# Altium integrated library Analog Devices Data Converters Analog-to-Digital Converters.IntLib: 2404 symbols (part 181 of 346)
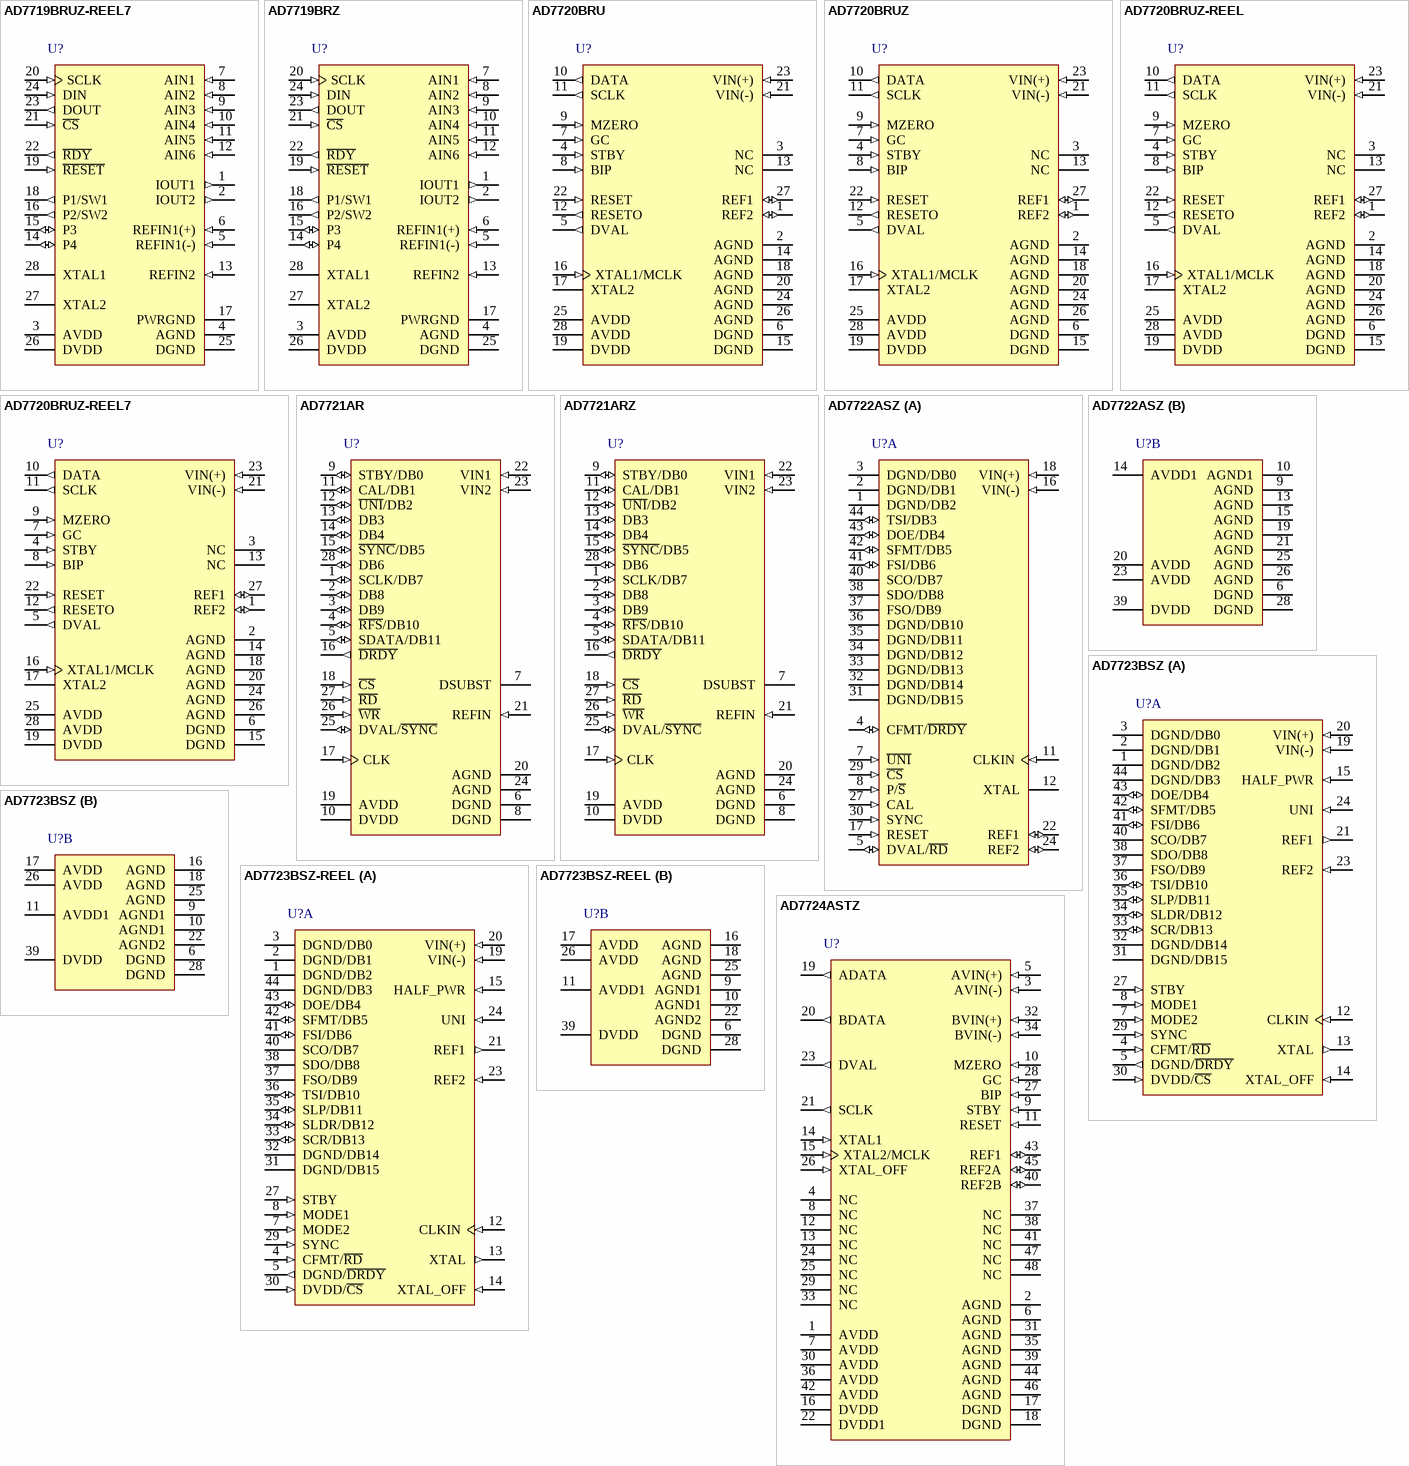
[diagram p253: symbols AD7719BRUZ-REEL7 to AD7724ASTZ]

## AD7719BRUZ-REEL7
designator U?
6 Channel 24-Bit Low Power Sigma-Delta Analog-to-Digital Converter with Serial, SPI Interface, Factory-Calibrated, 105SPS, -40 to +85 degC, RU-28, Pb-Free, Reel; Generic Part Number: AD7719; Manufacturer: Analog Devices; PartNumber: AD7719BRUZ-REEL7; Resolution (Bits): 24; Channels: 6; Throughput Rate (SPS): 105; Interface: Ser, SPI; DatasheetVersion: Rev.A; PackageVersion: 2005; PackageReference: RU-28; PackageDescription: 28-Lead Thin Shrink Small Outline Package [TSSOP]; Supplier 1: Digi-Key; Supplier Part Number 1: AD7719BRUZ-REEL7-ND; Supplier 2: Mouser; Supplier Part Number 2: 584-AD7719BRUZ-R7; RoHS: Y; Packing: Reel; Mounting Technology: Surface Mount; Code_JEDEC: MO-153-AE; ComponentLink1Description: Manufacturer URL; ComponentLink1URL: http://www.analog.com/en/index.html; ComponentLink2Description: Datasheet; ComponentLink2URL: http://www.analog.com/static/imported-files/data_sheets/AD7719.pdf; ComponentLink3Description: Package Specification; ComponentLink3URL: http://www.analog.com/static/imported-files/packages/249854663RU_28.pdf; ComponentLink4Description: Product URL; ComponentLink4URL: http://www.analog.com/en/analog-to-digital-converters/ad-converters/ad7719/products/product.html
footprint RU-28_N (TSOP, 28-Leads, Body 9.7x4.4mm, Pitch 0.65mm, IPC Medium Density)
footprint RU-28_L (TSOP, 28-Leads, Body 9.7x4.4mm, Pitch 0.65mm, IPC High Density)
footprint RU-28_M (TSOP, 28-Leads, Body 9.7x4.4mm, Pitch 0.65mm, IPC Low Density)
pins: 1 IOUT1 (out) "Output for Internal 200 uA Excitation Current Source. Current source IEXC1 and/or IEXC2 can be switched to this output.", 2 IOUT2 (out) "Output for Internal 200 uA Excitation Current Source. Current source IEXC1 and/or IEXC2 can be switched to this output.", 3 AVDD (power) "Analog Supply Voltage.", 4 AGND (power) "Analog Ground.", 5 REFIN1(-) (in) "Negative Reference Input for Main ADC Channel. This reference input can lie anywhere between AGND and AVDD - 1 V.", 6 REFIN1(+) (in) "Positive Reference Input for Main ADC Channel. REFIN1(+) can lie anywhere between AVDD and AGND + 1 V. The nominal reference voltage (REFIN1(+) - REFIN1(-)) is 2.5 V, but the part is functional with a reference range from 1 (See Datasheet)", 7 AIN1 (in) "Analog Input. AIN1 is dedicated to the main channel.", 8 AIN2 (in) "Analog Input. AIN2 is dedicated to the main channel.", 9 AIN3 (in) "Analog Input. AIN3 can be multiplexed to either the main or auxiliary channel.", 10 AIN4 (in) "Analog Input. AIN4 can be multiplexed to either the main or auxiliary channel.", 11 AIN5 (in) "Analog Input. AIN5 is dedicated to the auxiliary channel and is referenced to AIN6 or AGND.", 12 AIN6 (in) "Analog Input. AIN6 is dedicated to the auxiliary channel. It forms a differential input pair with AIN5 in fully differential input mode or is referenced to AGND in pseudodifferential mode.", 13 REFIN2 (in) "Single-Ended Reference Input for Auxiliary Channel. The nominal input reference is 2.5 V. The auxiliary channel will function with an input reference range from 1 V to AVDD.", 14 P4 (io) "General-Purpose I/O Bit. The input and output voltage levels are referenced to AVDD and AGND.", 15 P3 (io) "General-Purpose I/O Bit. The input and output voltage levels are referenced to AVDD and AGND.", 16 P2/SW2 (out) "Dual-Purpose Pin. It can act as a general-purpose output (P2) bit referenced between AVDD and AGND or as a low-side power switch (SW2) to PWRGND.", 17 PWRGND (power) "Ground Point for the Low-Side Power Switches SW2 and SW1. PWRGND must be tied to AGND.", 18 P1/SW1 (out) "Dual-Purpose Pin. It can act as a general-purpose output (P1) bit referenced between AVDD and AGND or as a low-side power switch (SW1) to PWRGND.", 19 ~{RESET} (in) "Digital Input Used to Reset the ADC to Its Power-On Reset Status. This pin has a weak pull-up internally to DVDD.", 20 SCLK (in) "Serial Clock Input for Data Transfers to and from the ADC. The SCLK has a Schmitt-triggered input, making the interface suitable for opto-isolated applications. The serial clock can be continuous with all data transmitted in (See Datasheet)", 21 ~{CS} (in) "Chip Select Input. This is an active low logic input used to select the AD7719. C\S\ can be used to select the AD7719 in systems with more than one device on the serial bus or as a frame synchronization signal in (See Datasheet)", 22 ~{RDY} (out) "R\D\Y\ is a logic low status output from the AD7719. R\D\Y\ is low if either the main ADC or auxiliary ADC channel has valid data in its data register. This output returns high on completion of a read operation from the data (See Datasheet)", 23 DOUT (out) "Serial Data Output Accessing the Output Shift Register of the AD7719. The output shift register can contain data from any of the on-chip data, calibration, or control registers.", 24 DIN (in) "Serial Data Input Accessing the Input Shift Register on the AD7719. Data in this shift register is transferred to the calibration or control registers within the ADC depending on the selection bits of the Communications (See Datasheet)", 25 DGND (power) "Ground Reference Point for the Digital Circuitry.", 26 DVDD (power) "Digital Supply Voltage, 3 V or 5 V Nominal.", 27 XTAL2 "Output from the 32 kHz Crystal Oscillator Inverter.", 28 XTAL1 "Input to the 32 kHz Crystal Oscillator Inverter."

## AD7719BRZ
designator U?
6 Channel 24-Bit Low Power Sigma-Delta Analog-to-Digital Converter with Serial, SPI Interface, Factory-Calibrated, 105SPS, -40 to +85 degC, RW-28, Pb-Free, Tube; Generic Part Number: AD7719; Manufacturer: Analog Devices; PartNumber: AD7719BRZ; Resolution (Bits): 24; Channels: 6; Throughput Rate (SPS): 105; Interface: Ser, SPI; DatasheetVersion: Rev.A; PackageVersion: 060706-A; PackageReference: RW-28; PackageDescription: 28-Lead Standard Small Outline Package [SOIC_W]; Supplier 1: Digi-Key; Supplier Part Number 1: AD7719BRZ-ND; Supplier 2: Farnell; Supplier Part Number 2: 1438860; Supplier 3: Newark; Supplier Part Number 3: 15P0858; Supplier 4: Newark; Supplier Part Number 4: 59K5359; Supplier 5: Mouser; Supplier Part Number 5: 584-AD7719BRZ; RoHS: Y; Packing: Tube; Mounting Technology: Surface Mount; Code_JEDEC: MS-013-AE; ComponentLink1Description: Manufacturer URL; ComponentLink1URL: http://www.analog.com/en/index.html; ComponentLink2Description: Datasheet; ComponentLink2URL: http://www.analog.com/static/imported-files/data_sheets/AD7719.pdf; ComponentLink3Description: Package Specification; ComponentLink3URL: http://www.analog.com/static/imported-files/packages/35833120341221RW_28.pdf; ComponentLink4Description: Product URL; ComponentLink4URL: http://www.analog.com/en/analog-to-digital-converters/ad-converters/ad7719/products/product.html
footprint RW-28_N (SOIC, 28-Leads, Body 17.9x7.5mm, Pitch 1.27mm, IPC Medium Density)
footprint RW-28_L (SOIC, 28-Leads, Body 17.9x7.5mm, Pitch 1.27mm, IPC High Density)
footprint RW-28_M (SOIC, 28-Leads, Body 17.9x7.5mm, Pitch 1.27mm, IPC Low Density)
pins: 1 IOUT1 (out) "Output for Internal 200 uA Excitation Current Source. Current source IEXC1 and/or IEXC2 can be switched to this output.", 2 IOUT2 (out) "Output for Internal 200 uA Excitation Current Source. Current source IEXC1 and/or IEXC2 can be switched to this output.", 3 AVDD (power) "Analog Supply Voltage.", 4 AGND (power) "Analog Ground.", 5 REFIN1(-) (in) "Negative Reference Input for Main ADC Channel. This reference input can lie anywhere between AGND and AVDD - 1 V.", 6 REFIN1(+) (in) "Positive Reference Input for Main ADC Channel. REFIN1(+) can lie anywhere between AVDD and AGND + 1 V. The nominal reference voltage (REFIN1(+) - REFIN1(-)) is 2.5 V, but the part is functional with a reference range from 1 (See Datasheet)", 7 AIN1 (in) "Analog Input. AIN1 is dedicated to the main channel.", 8 AIN2 (in) "Analog Input. AIN2 is dedicated to the main channel.", 9 AIN3 (in) "Analog Input. AIN3 can be multiplexed to either the main or auxiliary channel.", 10 AIN4 (in) "Analog Input. AIN4 can be multiplexed to either the main or auxiliary channel.", 11 AIN5 (in) "Analog Input. AIN5 is dedicated to the auxiliary channel and is referenced to AIN6 or AGND.", 12 AIN6 (in) "Analog Input. AIN6 is dedicated to the auxiliary channel. It forms a differential input pair with AIN5 in fully differential input mode or is referenced to AGND in pseudodifferential mode.", 13 REFIN2 (in) "Single-Ended Reference Input for Auxiliary Channel. The nominal input reference is 2.5 V. The auxiliary channel will function with an input reference range from 1 V to AVDD.", 14 P4 (io) "General-Purpose I/O Bit. The input and output voltage levels are referenced to AVDD and AGND.", 15 P3 (io) "General-Purpose I/O Bit. The input and output voltage levels are referenced to AVDD and AGND.", 16 P2/SW2 (out) "Dual-Purpose Pin. It can act as a general-purpose output (P2) bit referenced between AVDD and AGND or as a low-side power switch (SW2) to PWRGND.", 17 PWRGND (power) "Ground Point for the Low-Side Power Switches SW2 and SW1. PWRGND must be tied to AGND.", 18 P1/SW1 (out) "Dual-Purpose Pin. It can act as a general-purpose output (P1) bit referenced between AVDD and AGND or as a low-side power switch (SW1) to PWRGND.", 19 ~{RESET} (in) "Digital Input Used to Reset the ADC to Its Power-On Reset Status. This pin has a weak pull-up internally to DVDD.", 20 SCLK (in) "Serial Clock Input for Data Transfers to and from the ADC. The SCLK has a Schmitt-triggered input, making the interface suitable for opto-isolated applications. The serial clock can be continuous with all data transmitted in (See Datasheet)", 21 ~{CS} (in) "Chip Select Input. This is an active low logic input used to select the AD7719. C\S\ can be used to select the AD7719 in systems with more than one device on the serial bus or as a frame synchronization signal in (See Datasheet)", 22 ~{RDY} (out) "R\D\Y\ is a logic low status output from the AD7719. R\D\Y\ is low if either the main ADC or auxiliary ADC channel has valid data in its data register. This output returns high on completion of a read operation from the data (See Datasheet)", 23 DOUT (out) "Serial Data Output Accessing the Output Shift Register of the AD7719. The output shift register can contain data from any of the on-chip data, calibration, or control registers.", 24 DIN (in) "Serial Data Input Accessing the Input Shift Register on the AD7719. Data in this shift register is transferred to the calibration or control registers within the ADC depending on the selection bits of the Communications (See Datasheet)", 25 DGND (power) "Ground Reference Point for the Digital Circuitry.", 26 DVDD (power) "Digital Supply Voltage, 3 V or 5 V Nominal.", 27 XTAL2 "Output from the 32 kHz Crystal Oscillator Inverter.", 28 XTAL1 "Input to the 32 kHz Crystal Oscillator Inverter."

## AD7720BRU
designator U?
Single 16-Bit Sigma-Delta Analog-to-Digital Converter with Serial Interface, 12.5MSPS, -40 to +85 degC, RU-28, Tube; Generic Part Number: AD7720; Manufacturer: Analog Devices; PartNumber: AD7720BRU; Resolution (Bits): 16; Channels: 1; Throughput Rate (SPS): 12.5M; Interface: Ser; DatasheetVersion: Rev.0; PackageVersion: 2005; PackageReference: RU-28; PackageDescription: 28-Lead Thin Shrink Small Outline Package [TSSOP]; Supplier 1: Digi-Key; Supplier Part Number 1: AD7720BRU-ND; Supplier 2: Mouser; Supplier Part Number 2: 584-AD7720BRU; RoHS: N; Packing: Tube; Mounting Technology: Surface Mount; Code_JEDEC: MO-153-AE; ComponentLink1Description: Manufacturer URL; ComponentLink1URL: http://www.analog.com/en/index.html; ComponentLink2Description: Datasheet; ComponentLink2URL: http://www.analog.com/static/imported-files/data_sheets/AD7720.pdf; ComponentLink3Description: Package Specification; ComponentLink3URL: http://www.analog.com/static/imported-files/packages/249854663RU_28.pdf; ComponentLink4Description: Product URL; ComponentLink4URL: http://www.analog.com/en/analog-to-digital-converters/ad-converters/ad7720/products/product.html
footprint RU-28_N (TSOP, 28-Leads, Body 9.7x4.4mm, Pitch 0.65mm, IPC Medium Density)
footprint RU-28_L (TSOP, 28-Leads, Body 9.7x4.4mm, Pitch 0.65mm, IPC High Density)
footprint RU-28_M (TSOP, 28-Leads, Body 9.7x4.4mm, Pitch 0.65mm, IPC Low Density)
pins: 1 REF2 (io) "Reference Input/Output. REF2 connects to the output of an internal buffer amplifier used to drive the sigma-delta modulator. When REF2 is used as an input, REF1 must be connected to AGND.", 2 AGND (power) "Ground reference point for analog circuitry.", 3 NC "No Connect.", 4 STBY (in) "Standby, Logic Input. When STBY is high, the device is placed in a low power mode. When STBY is low, the device is powered up.", 5 DVAL (out) "Data Valid Logic Output. A logic high on DVAL indicates that the data bit stream from the AD7720 is an accurate digital representation of the analog voltage at the input to the sigma-delta modulator. The DVAL pin is set low (See Datasheet)", 6 DGND (power) "Ground reference for the digital circuitry.", 7 GC (in) "Digital Control Input. When GC is high, the gain error of the modulator can be calibrated.", 8 BIP (in) "Analog Input Range Select, Logic Input. A logic low on this input selects unipolar mode. A logic high selects bipolar mode.", 9 MZERO (in) "Digital Control Input. When MZERO is high, the modulator inputs are internally grounded, i.e., tied to AGND in unipolar mode and REF2 in bipolar mode. MZERO allows on-chip offsets to be calibrated out. MZERO is low for (See Datasheet)", 10 DATA (out) "Modulator Bit Stream. The digital bit stream from the sigma-delta modulator is output at DATA.", 11 SCLK (out) "Serial Clock, Logic Output. The bit stream from the modulator is valid on the rising edge of SCLK.", 12 RESETO (out) "Reset Logic Output. The signal applied to the RESET pin is made available as an output at RESETO.", 13 NC "No Connect.", 14 AGND (power) "Ground reference point for analog circuitry.", 15 DGND (power) "Ground reference for the digital circuitry.", 16 XTAL1/MCLK (in) "CMOS Logic Clock Input. The XTAL1/MCLK pin interfaces the device’s internal oscillator circuit to an external crystal or an external clock. A parallel resonant, fundamental-frequency, microprocessor-grade crystal and a 1 (See Datasheet)", 17 XTAL2 "Oscillator Output. The XTAL2 pin connects the internal oscillator output to an external crystal. If an external clock is used, XTAL2 should be left unconnected.", 18 AGND (power) "Ground reference point for analog circuitry.", 19 DVDD (power) "Digital Supply Voltage, +5 V +/- 5%.", 20 AGND (power) "Ground reference point for analog circuitry.", 21 VIN(-) (in) "Analog Input. In unipolar operation, the analog input range on VIN(+) is VIN(-) to (VIN(-) + VREF); for bipolar operation, the analog input range on VIN+ is (VIN(-) +/- VREF/2). The absolute analog input range must lie (See Datasheet)", 22 RESET (in) "Reset Logic Input. RESET is an asynchronous input. When RESET is taken high, the sigma-delta modulator is reset by shorting the integrator capacitors in the modulator. DVAL goes low for 20 MCLK cycles while the modulator is (See Datasheet)", 23 VIN(+) (in) "Analog Input. In unipolar operation, the analog input range on VIN(+) is VIN(-) to (VIN(-) + VREF); for bipolar operation, the analog input range on VIN+ is (VIN(-) +/- VREF/2). The absolute analog input range must lie (See Datasheet)", 24 AGND (power) "Ground reference point for analog circuitry.", 25 AVDD (power) "Analog Positive Supply Voltage, +5 V +/- 5%.", 26 AGND (power) "Ground reference point for analog circuitry.", 27 REF1 (io) "Reference Input/Output. REF1 connects via a 3 k ohm resistor to the output of the internal 2.5 V reference, and to the input of a buffer amplifier that drives the sigma-delta modulator. This pin can also be overdriven with (See Datasheet)", 28 AVDD (power) "Analog Positive Supply Voltage, +5 V +/- 5%."

## AD7720BRUZ
designator U?
Single 16-Bit Sigma-Delta Analog-to-Digital Converter with Serial Interface, 12.5MSPS, -40 to +85 degC, RU-28, Pb-Free, Tube; Generic Part Number: AD7720; Manufacturer: Analog Devices; PartNumber: AD7720BRUZ; Resolution (Bits): 16; Channels: 1; Throughput Rate (SPS): 12.5M; Interface: Ser; DatasheetVersion: Rev.0; PackageVersion: 2005; PackageReference: RU-28; PackageDescription: 28-Lead Thin Shrink Small Outline Package [TSSOP]; Supplier 1: Digi-Key; Supplier Part Number 1: AD7720BRUZ-ND; Supplier 2: Mouser; Supplier Part Number 2: 584-AD7720BRUZ; RoHS: Y; Packing: Tube; Mounting Technology: Surface Mount; Code_JEDEC: MO-153-AE; ComponentLink1Description: Manufacturer URL; ComponentLink1URL: http://www.analog.com/en/index.html; ComponentLink2Description: Datasheet; ComponentLink2URL: http://www.analog.com/static/imported-files/data_sheets/AD7720.pdf; ComponentLink3Description: Package Specification; ComponentLink3URL: http://www.analog.com/static/imported-files/packages/249854663RU_28.pdf; ComponentLink4Description: Product URL; ComponentLink4URL: http://www.analog.com/en/analog-to-digital-converters/ad-converters/ad7720/products/product.html
footprint RU-28_N (TSOP, 28-Leads, Body 9.7x4.4mm, Pitch 0.65mm, IPC Medium Density)
footprint RU-28_L (TSOP, 28-Leads, Body 9.7x4.4mm, Pitch 0.65mm, IPC High Density)
footprint RU-28_M (TSOP, 28-Leads, Body 9.7x4.4mm, Pitch 0.65mm, IPC Low Density)
pins: 1 REF2 (io) "Reference Input/Output. REF2 connects to the output of an internal buffer amplifier used to drive the sigma-delta modulator. When REF2 is used as an input, REF1 must be connected to AGND.", 2 AGND (power) "Ground reference point for analog circuitry.", 3 NC "No Connect.", 4 STBY (in) "Standby, Logic Input. When STBY is high, the device is placed in a low power mode. When STBY is low, the device is powered up.", 5 DVAL (out) "Data Valid Logic Output. A logic high on DVAL indicates that the data bit stream from the AD7720 is an accurate digital representation of the analog voltage at the input to the sigma-delta modulator. The DVAL pin is set low (See Datasheet)", 6 DGND (power) "Ground reference for the digital circuitry.", 7 GC (in) "Digital Control Input. When GC is high, the gain error of the modulator can be calibrated.", 8 BIP (in) "Analog Input Range Select, Logic Input. A logic low on this input selects unipolar mode. A logic high selects bipolar mode.", 9 MZERO (in) "Digital Control Input. When MZERO is high, the modulator inputs are internally grounded, i.e., tied to AGND in unipolar mode and REF2 in bipolar mode. MZERO allows on-chip offsets to be calibrated out. MZERO is low for (See Datasheet)", 10 DATA (out) "Modulator Bit Stream. The digital bit stream from the sigma-delta modulator is output at DATA.", 11 SCLK (out) "Serial Clock, Logic Output. The bit stream from the modulator is valid on the rising edge of SCLK.", 12 RESETO (out) "Reset Logic Output. The signal applied to the RESET pin is made available as an output at RESETO.", 13 NC "No Connect.", 14 AGND (power) "Ground reference point for analog circuitry.", 15 DGND (power) "Ground reference for the digital circuitry.", 16 XTAL1/MCLK (in) "CMOS Logic Clock Input. The XTAL1/MCLK pin interfaces the device’s internal oscillator circuit to an external crystal or an external clock. A parallel resonant, fundamental-frequency, microprocessor-grade crystal and a 1 (See Datasheet)", 17 XTAL2 "Oscillator Output. The XTAL2 pin connects the internal oscillator output to an external crystal. If an external clock is used, XTAL2 should be left unconnected.", 18 AGND (power) "Ground reference point for analog circuitry.", 19 DVDD (power) "Digital Supply Voltage, +5 V +/- 5%.", 20 AGND (power) "Ground reference point for analog circuitry.", 21 VIN(-) (in) "Analog Input. In unipolar operation, the analog input range on VIN(+) is VIN(-) to (VIN(-) + VREF); for bipolar operation, the analog input range on VIN+ is (VIN(-) +/- VREF/2). The absolute analog input range must lie (See Datasheet)", 22 RESET (in) "Reset Logic Input. RESET is an asynchronous input. When RESET is taken high, the sigma-delta modulator is reset by shorting the integrator capacitors in the modulator. DVAL goes low for 20 MCLK cycles while the modulator is (See Datasheet)", 23 VIN(+) (in) "Analog Input. In unipolar operation, the analog input range on VIN(+) is VIN(-) to (VIN(-) + VREF); for bipolar operation, the analog input range on VIN+ is (VIN(-) +/- VREF/2). The absolute analog input range must lie (See Datasheet)", 24 AGND (power) "Ground reference point for analog circuitry.", 25 AVDD (power) "Analog Positive Supply Voltage, +5 V +/- 5%.", 26 AGND (power) "Ground reference point for analog circuitry.", 27 REF1 (io) "Reference Input/Output. REF1 connects via a 3 k ohm resistor to the output of the internal 2.5 V reference, and to the input of a buffer amplifier that drives the sigma-delta modulator. This pin can also be overdriven with (See Datasheet)", 28 AVDD (power) "Analog Positive Supply Voltage, +5 V +/- 5%."

## AD7720BRUZ-REEL
designator U?
Single 16-Bit Sigma-Delta Analog-to-Digital Converter with Serial Interface, 12.5MSPS, -40 to +85 degC, RU-28, Pb-Free, Reel; Generic Part Number: AD7720; Manufacturer: Analog Devices; PartNumber: AD7720BRUZ-REEL; Resolution (Bits): 16; Channels: 1; Throughput Rate (SPS): 12.5M; Interface: Ser; DatasheetVersion: Rev.0; PackageVersion: 2005; PackageReference: RU-28; PackageDescription: 28-Lead Thin Shrink Small Outline Package [TSSOP]; Supplier 1: Digi-Key; Supplier Part Number 1: AD7720BRUZ-REEL-ND; Supplier 2: Mouser; Supplier Part Number 2: 584-AD7720BRUZ-R; RoHS: Y; Packing: Reel; Mounting Technology: Surface Mount; Code_JEDEC: MO-153-AE; ComponentLink1Description: Manufacturer URL; ComponentLink1URL: http://www.analog.com/en/index.html; ComponentLink2Description: Datasheet; ComponentLink2URL: http://www.analog.com/static/imported-files/data_sheets/AD7720.pdf; ComponentLink3Description: Package Specification; ComponentLink3URL: http://www.analog.com/static/imported-files/packages/249854663RU_28.pdf; ComponentLink4Description: Product URL; ComponentLink4URL: http://www.analog.com/en/analog-to-digital-converters/ad-converters/ad7720/products/product.html
footprint RU-28_N (TSOP, 28-Leads, Body 9.7x4.4mm, Pitch 0.65mm, IPC Medium Density)
footprint RU-28_L (TSOP, 28-Leads, Body 9.7x4.4mm, Pitch 0.65mm, IPC High Density)
footprint RU-28_M (TSOP, 28-Leads, Body 9.7x4.4mm, Pitch 0.65mm, IPC Low Density)
pins: 1 REF2 (io) "Reference Input/Output. REF2 connects to the output of an internal buffer amplifier used to drive the sigma-delta modulator. When REF2 is used as an input, REF1 must be connected to AGND.", 2 AGND (power) "Ground reference point for analog circuitry.", 3 NC "No Connect.", 4 STBY (in) "Standby, Logic Input. When STBY is high, the device is placed in a low power mode. When STBY is low, the device is powered up.", 5 DVAL (out) "Data Valid Logic Output. A logic high on DVAL indicates that the data bit stream from the AD7720 is an accurate digital representation of the analog voltage at the input to the sigma-delta modulator. The DVAL pin is set low (See Datasheet)", 6 DGND (power) "Ground reference for the digital circuitry.", 7 GC (in) "Digital Control Input. When GC is high, the gain error of the modulator can be calibrated.", 8 BIP (in) "Analog Input Range Select, Logic Input. A logic low on this input selects unipolar mode. A logic high selects bipolar mode.", 9 MZERO (in) "Digital Control Input. When MZERO is high, the modulator inputs are internally grounded, i.e., tied to AGND in unipolar mode and REF2 in bipolar mode. MZERO allows on-chip offsets to be calibrated out. MZERO is low for (See Datasheet)", 10 DATA (out) "Modulator Bit Stream. The digital bit stream from the sigma-delta modulator is output at DATA.", 11 SCLK (out) "Serial Clock, Logic Output. The bit stream from the modulator is valid on the rising edge of SCLK.", 12 RESETO (out) "Reset Logic Output. The signal applied to the RESET pin is made available as an output at RESETO.", 13 NC "No Connect.", 14 AGND (power) "Ground reference point for analog circuitry.", 15 DGND (power) "Ground reference for the digital circuitry.", 16 XTAL1/MCLK (in) "CMOS Logic Clock Input. The XTAL1/MCLK pin interfaces the device’s internal oscillator circuit to an external crystal or an external clock. A parallel resonant, fundamental-frequency, microprocessor-grade crystal and a 1 (See Datasheet)", 17 XTAL2 "Oscillator Output. The XTAL2 pin connects the internal oscillator output to an external crystal. If an external clock is used, XTAL2 should be left unconnected.", 18 AGND (power) "Ground reference point for analog circuitry.", 19 DVDD (power) "Digital Supply Voltage, +5 V +/- 5%.", 20 AGND (power) "Ground reference point for analog circuitry.", 21 VIN(-) (in) "Analog Input. In unipolar operation, the analog input range on VIN(+) is VIN(-) to (VIN(-) + VREF); for bipolar operation, the analog input range on VIN+ is (VIN(-) +/- VREF/2). The absolute analog input range must lie (See Datasheet)", 22 RESET (in) "Reset Logic Input. RESET is an asynchronous input. When RESET is taken high, the sigma-delta modulator is reset by shorting the integrator capacitors in the modulator. DVAL goes low for 20 MCLK cycles while the modulator is (See Datasheet)", 23 VIN(+) (in) "Analog Input. In unipolar operation, the analog input range on VIN(+) is VIN(-) to (VIN(-) + VREF); for bipolar operation, the analog input range on VIN+ is (VIN(-) +/- VREF/2). The absolute analog input range must lie (See Datasheet)", 24 AGND (power) "Ground reference point for analog circuitry.", 25 AVDD (power) "Analog Positive Supply Voltage, +5 V +/- 5%.", 26 AGND (power) "Ground reference point for analog circuitry.", 27 REF1 (io) "Reference Input/Output. REF1 connects via a 3 k ohm resistor to the output of the internal 2.5 V reference, and to the input of a buffer amplifier that drives the sigma-delta modulator. This pin can also be overdriven with (See Datasheet)", 28 AVDD (power) "Analog Positive Supply Voltage, +5 V +/- 5%."

## AD7720BRUZ-REEL7
designator U?
Single 16-Bit Sigma-Delta Analog-to-Digital Converter with Serial Interface, 12.5MSPS, -40 to +85 degC, RU-28, Pb-Free, Reel; Generic Part Number: AD7720; Manufacturer: Analog Devices; PartNumber: AD7720BRUZ-REEL7; Resolution (Bits): 16; Channels: 1; Throughput Rate (SPS): 12.5M; Interface: Ser; DatasheetVersion: Rev.0; PackageVersion: 2005; PackageReference: RU-28; PackageDescription: 28-Lead Thin Shrink Small Outline Package [TSSOP]; Supplier 1: Digi-Key; Supplier Part Number 1: AD7720BRUZ-REEL7-ND; Supplier 2: Mouser; Supplier Part Number 2: 584-AD7720BRUZ-R7; RoHS: Y; Packing: Reel; Mounting Technology: Surface Mount; Code_JEDEC: MO-153-AE; ComponentLink1Description: Manufacturer URL; ComponentLink1URL: http://www.analog.com/en/index.html; ComponentLink2Description: Datasheet; ComponentLink2URL: http://www.analog.com/static/imported-files/data_sheets/AD7720.pdf; ComponentLink3Description: Package Specification; ComponentLink3URL: http://www.analog.com/static/imported-files/packages/249854663RU_28.pdf; ComponentLink4Description: Product URL; ComponentLink4URL: http://www.analog.com/en/analog-to-digital-converters/ad-converters/ad7720/products/product.html
footprint RU-28_N (TSOP, 28-Leads, Body 9.7x4.4mm, Pitch 0.65mm, IPC Medium Density)
footprint RU-28_L (TSOP, 28-Leads, Body 9.7x4.4mm, Pitch 0.65mm, IPC High Density)
footprint RU-28_M (TSOP, 28-Leads, Body 9.7x4.4mm, Pitch 0.65mm, IPC Low Density)
pins: 1 REF2 (io) "Reference Input/Output. REF2 connects to the output of an internal buffer amplifier used to drive the sigma-delta modulator. When REF2 is used as an input, REF1 must be connected to AGND.", 2 AGND (power) "Ground reference point for analog circuitry.", 3 NC "No Connect.", 4 STBY (in) "Standby, Logic Input. When STBY is high, the device is placed in a low power mode. When STBY is low, the device is powered up.", 5 DVAL (out) "Data Valid Logic Output. A logic high on DVAL indicates that the data bit stream from the AD7720 is an accurate digital representation of the analog voltage at the input to the sigma-delta modulator. The DVAL pin is set low (See Datasheet)", 6 DGND (power) "Ground reference for the digital circuitry.", 7 GC (in) "Digital Control Input. When GC is high, the gain error of the modulator can be calibrated.", 8 BIP (in) "Analog Input Range Select, Logic Input. A logic low on this input selects unipolar mode. A logic high selects bipolar mode.", 9 MZERO (in) "Digital Control Input. When MZERO is high, the modulator inputs are internally grounded, i.e., tied to AGND in unipolar mode and REF2 in bipolar mode. MZERO allows on-chip offsets to be calibrated out. MZERO is low for (See Datasheet)", 10 DATA (out) "Modulator Bit Stream. The digital bit stream from the sigma-delta modulator is output at DATA.", 11 SCLK (out) "Serial Clock, Logic Output. The bit stream from the modulator is valid on the rising edge of SCLK.", 12 RESETO (out) "Reset Logic Output. The signal applied to the RESET pin is made available as an output at RESETO.", 13 NC "No Connect.", 14 AGND (power) "Ground reference point for analog circuitry.", 15 DGND (power) "Ground reference for the digital circuitry.", 16 XTAL1/MCLK (in) "CMOS Logic Clock Input. The XTAL1/MCLK pin interfaces the device’s internal oscillator circuit to an external crystal or an external clock. A parallel resonant, fundamental-frequency, microprocessor-grade crystal and a 1 (See Datasheet)", 17 XTAL2 "Oscillator Output. The XTAL2 pin connects the internal oscillator output to an external crystal. If an external clock is used, XTAL2 should be left unconnected.", 18 AGND (power) "Ground reference point for analog circuitry.", 19 DVDD (power) "Digital Supply Voltage, +5 V +/- 5%.", 20 AGND (power) "Ground reference point for analog circuitry.", 21 VIN(-) (in) "Analog Input. In unipolar operation, the analog input range on VIN(+) is VIN(-) to (VIN(-) + VREF); for bipolar operation, the analog input range on VIN+ is (VIN(-) +/- VREF/2). The absolute analog input range must lie (See Datasheet)", 22 RESET (in) "Reset Logic Input. RESET is an asynchronous input. When RESET is taken high, the sigma-delta modulator is reset by shorting the integrator capacitors in the modulator. DVAL goes low for 20 MCLK cycles while the modulator is (See Datasheet)", 23 VIN(+) (in) "Analog Input. In unipolar operation, the analog input range on VIN(+) is VIN(-) to (VIN(-) + VREF); for bipolar operation, the analog input range on VIN+ is (VIN(-) +/- VREF/2). The absolute analog input range must lie (See Datasheet)", 24 AGND (power) "Ground reference point for analog circuitry.", 25 AVDD (power) "Analog Positive Supply Voltage, +5 V +/- 5%.", 26 AGND (power) "Ground reference point for analog circuitry.", 27 REF1 (io) "Reference Input/Output. REF1 connects via a 3 k ohm resistor to the output of the internal 2.5 V reference, and to the input of a buffer amplifier that drives the sigma-delta modulator. This pin can also be overdriven with (See Datasheet)", 28 AVDD (power) "Analog Positive Supply Voltage, +5 V +/- 5%."

## AD7721AR
designator U?
Single 16-Bit Sigma-Delta Analog-to-Digital Converter with Parallel, Serial Interface, CMOS, 468.75KSPS, -40 to +85 degC, RW-28, Tube; Generic Part Number: AD7721; Manufacturer: Analog Devices; PartNumber: AD7721AR; Resolution (Bits): 16; Channels: 1; Interface: Par, Ser; DatasheetVersion: Rev.A; PackageVersion: 060706-A; PackageReference: RW-28; PackageDescription: 28-Lead Standard Small Outline Package [SOIC_W]; Supplier 1: Digi-Key; Supplier Part Number 1: AD7721AR-ND; Supplier 2: Mouser; Supplier Part Number 2: 584-AD7721AR; Throughput Rate (SPS): 468.75K; RoHS: N; Packing: Tube; Mounting Technology: Surface Mount; Code_JEDEC: MS-013-AE; ComponentLink1Description: Manufacturer URL; ComponentLink1URL: http://www.analog.com/en/index.html; ComponentLink2Description: Datasheet; ComponentLink2URL: http://www.analog.com/static/imported-files/data_sheets/AD7721.pdf; ComponentLink3Description: Package Specification; ComponentLink3URL: http://www.analog.com/static/imported-files/packages/35833120341221RW_28.pdf; ComponentLink4Description: Product URL; ComponentLink4URL: http://www.analog.com/en/analog-to-digital-converters/ad-converters/ad7721/products/product.html
footprint RW-28_N (SOIC, 28-Leads, Body 17.9x7.5mm, Pitch 1.27mm, IPC Medium Density)
footprint RW-28_L (SOIC, 28-Leads, Body 17.9x7.5mm, Pitch 1.27mm, IPC High Density)
footprint RW-28_M (SOIC, 28-Leads, Body 17.9x7.5mm, Pitch 1.27mm, IPC Low Density)
pins: 1 SCLK/DB7 (io) "Serial Clock. Logic Output. The internal digital clock is provided as an output on this pin. Data is output from the AD7721 on the rising edge of SCLK and is valid on the falling edge of SCLK.These pins are both data outputs (See Datasheet)", 2 DB8 (io) "This is a test mode pin. This pin must be tied to DGND. This pin is both data outputs and control register inputs. Output data is placed on these pins by taking R\D\ and C\S\ low. Data on this pin is read into the control (See Datasheet)", 3 DB9 (io) "This is a test mode pin. This pin must be tied to DGND. This pin is both data output and control register input. Output data is placed on these pins by taking R\D\ and C\S\ low. Data on this pin is read into the control (See Datasheet)", 4 ~{RFS}/DB10 (io) "Receive Frame Synchronization. Active low logic input. This is a logic input with R\F\S\ provided by connecting this input to D\R\D\Y\. When RFS is high, SDATA is high impedance. This pin is both data output and control (See Datasheet)", 5 SDATA/DB11 (io) "Serial Data Output. Output serial data becomes active after R\F\S\ goes low. Sixteen bits of data are clocked out starting with the MSB. Serial data is clocked out on the rising edge of SCLK and is valid on the subsequent (See Datasheet)", 6 DGND (power) "Ground reference point for digital circuitry. DGND must be connected via its own short path to AGND (Pin 24).", 7 DSUBST (power) "This is the substrate connection for digital circuits. It must be connected via its own short path to AGND (Pin 24).", 8 DGND (power) "Ground reference point for digital circuitry. DGND must be connected via its own short path to AGND (Pin 24).", 9 STBY/DB0 (io) "Standby Mode Logic Input. A logic high on this pin selects standby mode. This pin is both data output and control register input. Output data is placed on these pins by taking R\D\ and C\S\ low. Data on this pin is read into (See Datasheet)", 10 DVDD (power) "Digital Supply Voltage, +5 V +/- 5%.", 11 CAL/DB1 (io) "Calibration Mode Logic Input. CAL must go high for at least one clock cycle to initiate a calibration cycle. This pin is both data output and control register input. Output data is placed on these pins by taking R\D\ and (See Datasheet)", 12 ~{UNI}/DB2 (io) "Analog Input Range Select, Logic Input. A logic low on this input selects unipolar mode. A logic high selects bipolar mode. This pin is both data output and control register input. Output data is placed on these pins by (See Datasheet)", 13 DB3 (io) "This is a test mode pin. This pin must be tied to DGND. This pin is both data output and control register input. Output data is placed on these pins by taking R\D\ and C\S\ low. Data on this pin is read into the control (See Datasheet)", 14 DB4 (io) "This is a test mode pin. This pin must be tied to DGND. This pin is both data output and control register input. Output data is placed on these pins by taking R\D\ and C\S\ low. Data on this pin is read into the control (See Datasheet)", 15 ~{SYNC}/DB5 (io) "Synchronization Logic Input. A rising edge on S\Y\N\C\ starts the synchronization cycle. S\Y\N\C\ must be pulsed low for at least one clock cycle to initiate a synchronization cycle.This pin is both data output and control (See Datasheet)", 16 ~{DRDY} (out) "In the serial interface mode, a rising edge on D\R\D\Y\ indicates that new data is available to be read from the interface. During a synchronization or calibration cycle, D\R\D\Y\ remains low until valid data is available.In (See Datasheet)", 17 CLK (in) "CMOS Logic Clock Input. The AD7721 operates with an external clock which is connected to the CLK pin. The modulator samples the analog input on both phases of the clock, increasing the sampling rate to 20 MHz (CLK = 10 MHz) (See Datasheet)", 18 ~{CS} (in) "To select the serial interface mode of operation, the AD7721 must be powered up with C\S\, R\D\ and W\R\ all tied to DGND. After two clock cycles, the AD7721 switches into serial mode. These pins must remain low during (See Datasheet)", 19 AVDD (power) "Analog Positive Supply Voltage, +5 V +/- 5%.", 20 AGND (power) "Ground reference point for analog circuitry.", 21 REFIN (in) "Reference Input. The AD7721 operates with an external reference, of value 2.5 V nominal. A suitable reference for operation with the AD7721 is the AD780. A 100 nF decoupling capacitor is required between REFIN and AGND.", 22 VIN1 (in) "Analog Input. In unipolar operation, the analog input range on VIN1 is VIN2 to (VIN2 + VREFIN); for bipolar operation, the analog input range on VIN1 is (VIN2 +/- VREFIN/2). The absolute analog input range must lie between 0 (See Datasheet)", 23 VIN2 (in) "Analog Input. In unipolar operation, the analog input range on VIN1 is VIN2 to (VIN2 + VREFIN); for bipolar operation, the analog input range on VIN1 is (VIN2 +/- VREFIN/2). The absolute analog input range must lie between 0 (See Datasheet)", 24 AGND (power) "Ground reference point for analog circuitry.", 25 DVAL/~{SYNC} (io) "Data Valid Digital Output. In serial mode, this pin is a dedicated data valid pin.The function of this pin is determined by the state of bit DB3 in the control register. Writing a logic zero to bit DB3 will program this pin (See Datasheet)", 26 ~{WR} (in) "To select the serial interface mode of operation, the AD7721 must be powered up with C\S\, R\D\ and W\R\ all tied to DGND. After two clock cycles, the AD7721 switches into serial mode. These pins must remain low during (See Datasheet)", 27 ~{RD} (in) "To select the serial interface mode of operation, the AD7721 must be powered up with C\S\, R\D\ and W\R\ all tied to DGND. After two clock cycles, the AD7721 switches into serial mode. These pins must remain low during (See Datasheet)", 28 DB6 (io) "This is a test mode pin. This pin must be tied to DGND. This pin is both data output and control register input. Output data is placed on these pins by taking R\D\ and C\S\ low. Data on this pin is read into the control (See Datasheet)"

## AD7721ARZ
designator U?
Single 16-Bit Sigma-Delta Analog-to-Digital Converter with Parallel, Serial Interface, CMOS, 468.75KSPS, -40 to +85 degC, RW-28, Pb-Free, Tube; Generic Part Number: AD7721; Manufacturer: Analog Devices; PartNumber: AD7721ARZ; Resolution (Bits): 16; Channels: 1; Interface: Par, Ser; DatasheetVersion: Rev.A; PackageVersion: 060706-A; PackageReference: RW-28; PackageDescription: 28-Lead Standard Small Outline Package [SOIC_W]; Supplier 1: Digi-Key; Supplier Part Number 1: AD7721ARZ-ND; Supplier 2: Mouser; Supplier Part Number 2: 584-AD7721ARZ; Throughput Rate (SPS): 468.75K; RoHS: Y; Packing: Tube; Mounting Technology: Surface Mount; Code_JEDEC: MS-013-AE; ComponentLink1Description: Manufacturer URL; ComponentLink1URL: http://www.analog.com/en/index.html; ComponentLink2Description: Datasheet; ComponentLink2URL: http://www.analog.com/static/imported-files/data_sheets/AD7721.pdf; ComponentLink3Description: Package Specification; ComponentLink3URL: http://www.analog.com/static/imported-files/packages/35833120341221RW_28.pdf; ComponentLink4Description: Product URL; ComponentLink4URL: http://www.analog.com/en/analog-to-digital-converters/ad-converters/ad7721/products/product.html
footprint RW-28_N (SOIC, 28-Leads, Body 17.9x7.5mm, Pitch 1.27mm, IPC Medium Density)
footprint RW-28_L (SOIC, 28-Leads, Body 17.9x7.5mm, Pitch 1.27mm, IPC High Density)
footprint RW-28_M (SOIC, 28-Leads, Body 17.9x7.5mm, Pitch 1.27mm, IPC Low Density)
pins: 1 SCLK/DB7 (io) "Serial Clock. Logic Output. The internal digital clock is provided as an output on this pin. Data is output from the AD7721 on the rising edge of SCLK and is valid on the falling edge of SCLK.These pins are both data outputs (See Datasheet)", 2 DB8 (io) "This is a test mode pin. This pin must be tied to DGND. This pin is both data outputs and control register inputs. Output data is placed on these pins by taking R\D\ and C\S\ low. Data on this pin is read into the control (See Datasheet)", 3 DB9 (io) "This is a test mode pin. This pin must be tied to DGND. This pin is both data output and control register input. Output data is placed on these pins by taking R\D\ and C\S\ low. Data on this pin is read into the control (See Datasheet)", 4 ~{RFS}/DB10 (io) "Receive Frame Synchronization. Active low logic input. This is a logic input with R\F\S\ provided by connecting this input to D\R\D\Y\. When RFS is high, SDATA is high impedance. This pin is both data output and control (See Datasheet)", 5 SDATA/DB11 (io) "Serial Data Output. Output serial data becomes active after R\F\S\ goes low. Sixteen bits of data are clocked out starting with the MSB. Serial data is clocked out on the rising edge of SCLK and is valid on the subsequent (See Datasheet)", 6 DGND (power) "Ground reference point for digital circuitry. DGND must be connected via its own short path to AGND (Pin 24).", 7 DSUBST (power) "This is the substrate connection for digital circuits. It must be connected via its own short path to AGND (Pin 24).", 8 DGND (power) "Ground reference point for digital circuitry. DGND must be connected via its own short path to AGND (Pin 24).", 9 STBY/DB0 (io) "Standby Mode Logic Input. A logic high on this pin selects standby mode. This pin is both data output and control register input. Output data is placed on these pins by taking R\D\ and C\S\ low. Data on this pin is read into (See Datasheet)", 10 DVDD (power) "Digital Supply Voltage, +5 V +/- 5%.", 11 CAL/DB1 (io) "Calibration Mode Logic Input. CAL must go high for at least one clock cycle to initiate a calibration cycle. This pin is both data output and control register input. Output data is placed on these pins by taking R\D\ and (See Datasheet)", 12 ~{UNI}/DB2 (io) "Analog Input Range Select, Logic Input. A logic low on this input selects unipolar mode. A logic high selects bipolar mode. This pin is both data output and control register input. Output data is placed on these pins by (See Datasheet)", 13 DB3 (io) "This is a test mode pin. This pin must be tied to DGND. This pin is both data output and control register input. Output data is placed on these pins by taking R\D\ and C\S\ low. Data on this pin is read into the control (See Datasheet)", 14 DB4 (io) "This is a test mode pin. This pin must be tied to DGND. This pin is both data output and control register input. Output data is placed on these pins by taking R\D\ and C\S\ low. Data on this pin is read into the control (See Datasheet)", 15 ~{SYNC}/DB5 (io) "Synchronization Logic Input. A rising edge on S\Y\N\C\ starts the synchronization cycle. S\Y\N\C\ must be pulsed low for at least one clock cycle to initiate a synchronization cycle.This pin is both data output and control (See Datasheet)", 16 ~{DRDY} (out) "In the serial interface mode, a rising edge on D\R\D\Y\ indicates that new data is available to be read from the interface. During a synchronization or calibration cycle, D\R\D\Y\ remains low until valid data is available.In (See Datasheet)", 17 CLK (in) "CMOS Logic Clock Input. The AD7721 operates with an external clock which is connected to the CLK pin. The modulator samples the analog input on both phases of the clock, increasing the sampling rate to 20 MHz (CLK = 10 MHz) (See Datasheet)", 18 ~{CS} (in) "To select the serial interface mode of operation, the AD7721 must be powered up with C\S\, R\D\ and W\R\ all tied to DGND. After two clock cycles, the AD7721 switches into serial mode. These pins must remain low during (See Datasheet)", 19 AVDD (power) "Analog Positive Supply Voltage, +5 V +/- 5%.", 20 AGND (power) "Ground reference point for analog circuitry.", 21 REFIN (in) "Reference Input. The AD7721 operates with an external reference, of value 2.5 V nominal. A suitable reference for operation with the AD7721 is the AD780. A 100 nF decoupling capacitor is required between REFIN and AGND.", 22 VIN1 (in) "Analog Input. In unipolar operation, the analog input range on VIN1 is VIN2 to (VIN2 + VREFIN); for bipolar operation, the analog input range on VIN1 is (VIN2 +/- VREFIN/2). The absolute analog input range must lie between 0 (See Datasheet)", 23 VIN2 (in) "Analog Input. In unipolar operation, the analog input range on VIN1 is VIN2 to (VIN2 + VREFIN); for bipolar operation, the analog input range on VIN1 is (VIN2 +/- VREFIN/2). The absolute analog input range must lie between 0 (See Datasheet)", 24 AGND (power) "Ground reference point for analog circuitry.", 25 DVAL/~{SYNC} (io) "Data Valid Digital Output. In serial mode, this pin is a dedicated data valid pin.The function of this pin is determined by the state of bit DB3 in the control register. Writing a logic zero to bit DB3 will program this pin (See Datasheet)", 26 ~{WR} (in) "To select the serial interface mode of operation, the AD7721 must be powered up with C\S\, R\D\ and W\R\ all tied to DGND. After two clock cycles, the AD7721 switches into serial mode. These pins must remain low during (See Datasheet)", 27 ~{RD} (in) "To select the serial interface mode of operation, the AD7721 must be powered up with C\S\, R\D\ and W\R\ all tied to DGND. After two clock cycles, the AD7721 switches into serial mode. These pins must remain low during (See Datasheet)", 28 DB6 (io) "This is a test mode pin. This pin must be tied to DGND. This pin is both data output and control register input. Output data is placed on these pins by taking R\D\ and C\S\ low. Data on this pin is read into the control (See Datasheet)"